# Altium footprint library PRM113.PcbLib: 1 footprints
Each footprint in its own frame and in the unit in brackets; x right, y up, seen from the top. Pads: shape width x height; smd on the part's side, far side on the other; paste and mask are expansions set on the pad; w line width, h text height; cw(c..) or ccw(c..) is an arc to the next point about the centre after c.
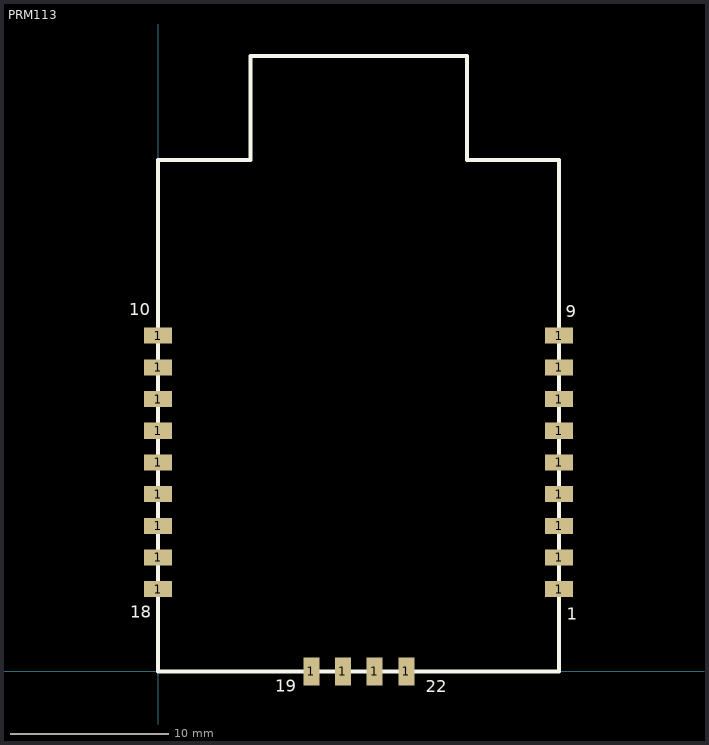
[diagram p0: the footprint, top view; thin cyan lines are the x and y axes]

## PRM113 [mil]
pads (22):
  rect 70x40 smd: 1(0,205) 1(0,284) 1(0,363) 1(0,442) 1(0,521) 1(0,600) 1(0,679) 1(0,758) 1(0,837) 1(1000,205) 1(1000,284) 1(1000,363) 1(1000,442) 1(1000,521) 1(1000,600) 1(1000,679) 1(1000,758) 1(1000,837)
  rect 40x70 smd: 1(382,0) 1(461,0) 1(540,0) 1(619,0)
Top Overlay:
  lines w10: 0,0 0,1275 230,1275 230,1535 500,1535 770,1535 770,1275 1000,1275 1000,0 0,0
  text "10" at -72,888 h30
  text "9" at 1017,883 h30
  text "18" at -70,134 h30
  text "1" at 1019,129 h30
  text "19" at 292,-51 h30
  text "22" at 668,-52 h30